# EAGLE library part MOLEX-55959-1030_MICROCLASP_10_RA (library BMS (v6))
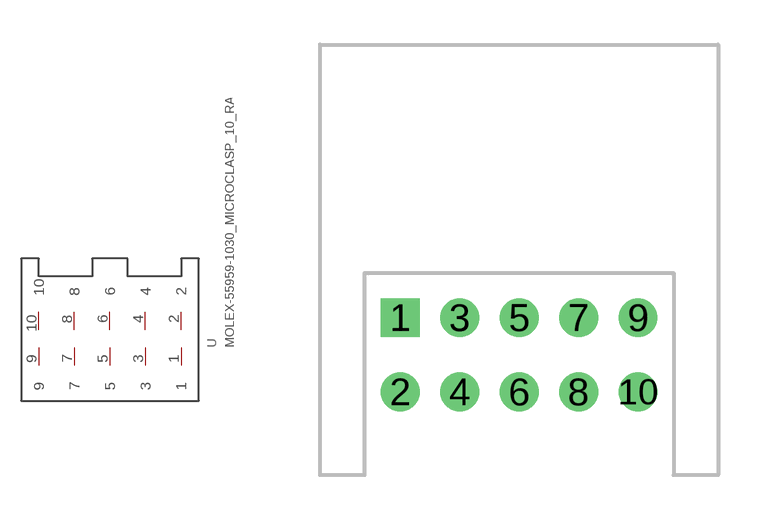
[diagram p1: symbol with the pads of MOLEX-55959-1030_MICROCLASP; footprint MOLEX-55959-1030_MICROCLASP]

Designator prefix -

## MOLEX-55959-1030_MICROCLASP_10_RA  [MOLEX-55959-1030_MICROCLASP]
1  1
2  2
3  3
4  4
5  5
6  6
7  7
8  8
9  9
10  10

## Footprint MOLEX-55959-1030_MICROCLASP (pad centres in mm)
drill 0.8 square: 1 -4,0
drill 0.8: 2 -4,-2.5; 3 -2,0; 4 -2,-2.5; 5 0,0; 6 0,-2.5; 7 2,0; 8 2,-2.5; 9 4,0; 10 4,-2.5